# Altium schematic symbol library sn74lvc1g38dbvre4.SchLib: 1 symbol
Pins are listed as number, name and electrical type; pins without a type are passive.

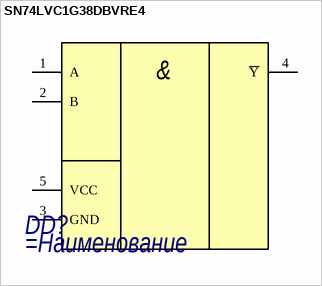
[diagram p0: symbol SN74LVC1G38DBVRE4]

## SN74LVC1G38DBVRE4
designator DD?
=Описание
pins: 1 A, 2 B, 3 GND, 4 ~{Y}, 5 VCC
text: &